# Altium schematic symbol library OPA2354AIDGKR.SchLib: 1 symbol
Pins are listed as number, name and electrical type; pins without a type are passive.

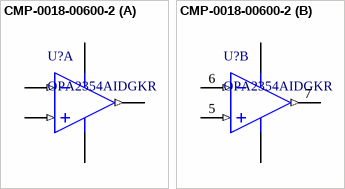
[diagram p0: symbol CMP-0018-00600-2]

## CMP-0018-00600-2
designator U?, comment OPA2354AIDGKR
250 MHz, Rail-to-Rail I/O, CMOS Dual Operational Amplifier, 2.7 to 5.5 V, -40 to 125 degC, 8-pin SOP (DGK8), Green (RoHS & no Sb/Br); Manufacturer: Texas Instruments; Slew Rate(Typ)(V/us): 150; Acl, min stable gain(V/V): 1; 3rd Harmonic(dBc): 83; Iq per channel(Max)(mA): 7.5; Vs(Max)(V): 5.5; Vn at Flatband(Typ)(nV/rtHz): 6.5; Vio(Max)(mV): 8; Rail-Rail: In, Out; BW @ Acl(MHz): 250; THD (Fc is 1 MHz)(Typ)(dB): -73; Io(Typ)(mA): 100; Iib(Max)(nA): 0.05; Number of Channels: 2; Settling Time (0.1%)(Typ)(ns): 30; 2nd Harmonic(dBc): 75; Sub Family: High Output Current Amplifier (>=50mA), High Speed Amplifier (>=50MHz), Low Supply Voltage Amplifier (<=2.7V); Diff Phase(deg): 0.09; Vs(Min)(V): 2.7; Diff Gain(%): 0.02; Eco-Plan: Green (RoHS & no Sb/Br); ComponentLink3Description: Package Specification; PackageDescription: 8-Pin Thin Small Outline, Body 3 x 3 mm, Pitch 0.65 mm; Mounting Technology: Surface Mount; @ MHz: 1; Code_JEDEC: MO-187; PackageVersion: 4073329/E, 05/2006; ComponentLink1Description: Manufacturer URL; PartNumber: OPA2354AIDGKR; PackageReference: DGK0008A; ComponentLink2Description: Datasheet; ComponentLink1URL: http://www.ti.com/; DatasheetVersion: SBOS233E; ComponentLink3URL: http://www.ti.com/litv/pdf/mpds028d; ComponentLink2URL: http://www.ti.com/general/docs/lit/getliterature.tsp?genericPartNumber=OPA2354&fileType=pdf
footprint DGK0008A_M (TSOP, 8-Leads, Body 3.1x3.1mm, Pitch 0.65mm, IPC Low Density)
footprint DGK0008A_L (TSOP, 8-Leads, Body 3.1x3.1mm, Pitch 0.65mm, IPC High Density)
footprint DGK0008A_N (TSOP, 8-Leads, Body 3.1x3.1mm, Pitch 0.65mm, IPC Medium Density)
pins on every part: 4 V- (power), 8 V+ (power)
part A pins: 1 OUT A (out), 2 IN A- (in), 3 IN A+ (in)
part B pins: 5 IN B+ (in), 6 IN B- (in), 7 OUT B (out)